# EAGLE library part LM3478MM/NOPB (library HVPS_SMD-eagle)
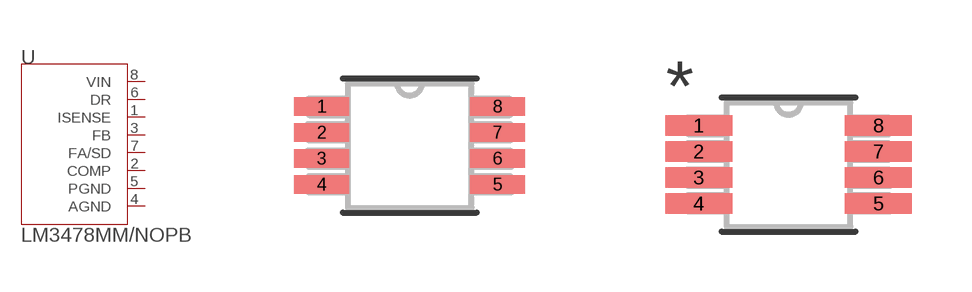
[diagram p0: symbol with the pads of MUA08A; footprints MUA08A, MUA08A-M]

Designator prefix U

## LM3478MM/NOPB (MANUFACTURER_PART_NUMBER: LM3478MMNOPB; VENDOR: Texas Instruments)  [MUA08A]
1  ISENSE  pas
2  COMP  pas
3  FB  pas
4  AGND  pas
5  PGND  pas
6  DR  pwr
7  FA/SD  pas
8  VIN  in

## LM3478MM/NOPBMUA08A-M (MANUFACTURER_PART_NUMBER: LM3478MMNOPB; VENDOR: Texas Instruments)  [MUA08A-M]
Pads as for MUA08A

## LM3478MM/NOPBMUA08A-L (MANUFACTURER_PART_NUMBER: LM3478MMNOPB; VENDOR: Texas Instruments)  [MUA08A-L]
Pads as for MUA08A

## Footprint MUA08A (pad centres in mm)
smd 1.372 x 0.457: 1 -2.197,0.975; 2 -2.197,0.325; 3 -2.197,-0.325; 4 -2.197,-0.975; 5 2.197,-0.975; 6 2.197,-0.325; 7 2.197,0.325; 8 2.197,0.975

## Footprint MUA08A-M (pad centres in mm)
smd 1.676 x 0.508: 1 -2.248,0.975; 2 -2.248,0.325; 3 -2.248,-0.325; 4 -2.248,-0.975; 5 2.248,-0.975; 6 2.248,-0.325; 7 2.248,0.325; 8 2.248,0.975

## Footprint MUA08A-L (pad centres in mm)
smd 1.067 x 0.406: 1 -2.146,0.975; 2 -2.146,0.325; 3 -2.146,-0.325; 4 -2.146,-0.975; 5 2.146,-0.975; 6 2.146,-0.325; 7 2.146,0.325; 8 2.146,0.975